# EAGLE library part 61002418221 (library Eagle_BOARD-TO-BOARD_CONNECTORS (rev18b))
WR-PHD 2.54mm SMT Pin Header, 24 Pins =>Code : Con_BTB_PHD_2.54_1_SMT_61002418221 <http://katalog.we-online.de/media/images/eican/Con_BTB_PHD_2.54_1_SMT_6100xx18221_pf2.jpg> Details see: http://katalog.we-online.de/en/em/610_0xx_182_21 Created 2014-05-29, Karrer Zheng 2014 (C) Würth Elektronik
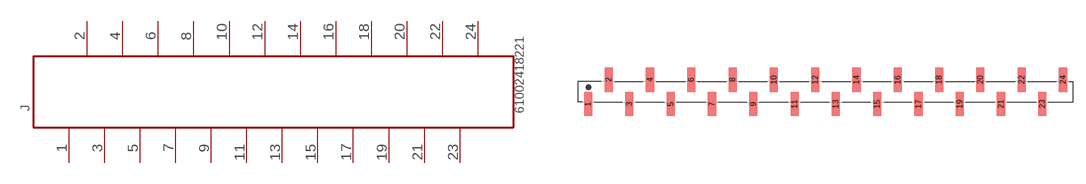
[diagram p65: symbol with the pads of 61002418221; footprint 61002418221]

Designator prefix J

## 61002418221  [61002418221]
1  1  pas
2  2  pas
3  3  pas
4  4  pas
5  5  pas
6  6  pas
7  7  pas
8  8  pas
9  9  pas
10  10  pas
11  11  pas
12  12  pas
13  13  pas
14  14  pas
15  15  pas
16  16  pas
17  17  pas
18  18  pas
19  19  pas
20  20  pas
21  21  pas
22  22  pas
23  23  pas
24  24  pas

## Footprint 61002418221 (pad centres in mm)
WR-PHD 2.54mm SMT Pin Header, 24 Pins
smd 1 x 3: 1 -29.21,-1.5; 2 -26.67,1.5; 3 -24.13,-1.5; 4 -21.59,1.5; 5 -19.05,-1.5; 6 -16.51,1.5; 7 -13.97,-1.5; 8 -11.43,1.5; 9 -8.89,-1.5; 10 -6.35,1.5; 11 -3.81,-1.5; 12 -1.27,1.5; 13 1.27,-1.5; 14 3.81,1.5; 15 6.35,-1.5; 16 8.89,1.5; 17 11.43,-1.5; 18 13.97,1.5; 19 16.51,-1.5; 20 19.05,1.5; 21 21.59,-1.5; 22 24.13,1.5; 23 26.67,-1.5; 24 29.21,1.5